# Altium schematic symbol library DP83848QSQE.SchLib: 1 symbol
Pins are listed as number, name and electrical type; pins without a type are passive.

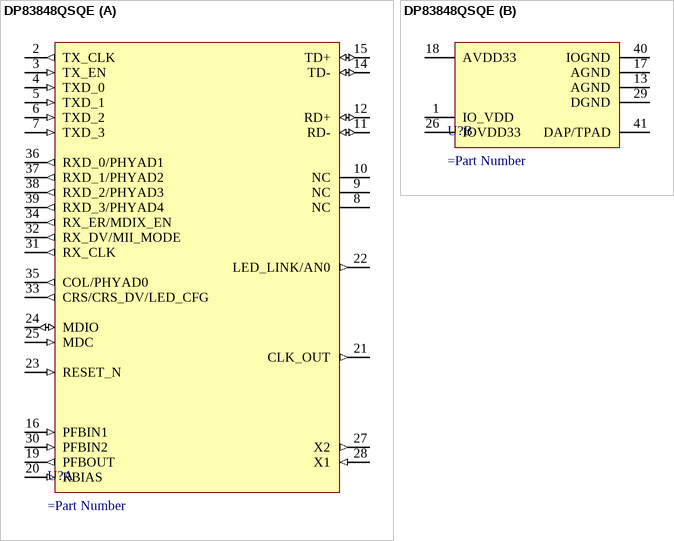
[diagram p0: symbol DP83848QSQE]

## DP83848QSQE
designator U?
=Description
part A pins: 2 TX_CLK (out), 3 TX_EN (in), 4 TXD_0 (in), 5 TXD_1 (in), 6 TXD_2 (in), 7 TXD_3 (in), 8 NC, 9 NC, 10 NC, 11 RD- (io), 12 RD+ (io), 14 TD- (io), 15 TD+ (io), 16 PFBIN1 (in), 19 PFBOUT (out), 20 RBIAS (in), 21 CLK_OUT (out), 22 LED_LINK/AN0 (out), 23 RESET_N (in), 24 MDIO (io), 25 MDC (in), 27 X2 (out), 28 X1 (in), 30 PFBIN2 (in), 31 RX_CLK (out), 32 RX_DV/MII_MODE (out), 33 CRS/CRS_DV/LED_CFG (out), 34 RX_ER/MDIX_EN (out), 35 COL/PHYAD0 (out), 36 RXD_0/PHYAD1 (out), 37 RXD_1/PHYAD2 (out), 38 RXD_2/PHYAD3 (out), 39 RXD_3/PHYAD4 (out)
part B pins: 1 IO_VDD (power), 13 AGND (power), 17 AGND (power), 18 AVDD33 (power), 26 IOVDD33 (power), 29 DGND (power), 40 IOGND (power), 41 DAP/TPAD (power)